# Altium footprint library newComponent0803.PcbLib: 11 footprints
Each footprint in its own frame and in the unit in brackets; x right, y up, seen from the top. Pads: shape width x height; smd on the part's side, far side on the other; paste and mask are expansions set on the pad; w line width, h text height; cw(c..) or ccw(c..) is an arc to the next point about the centre after c.
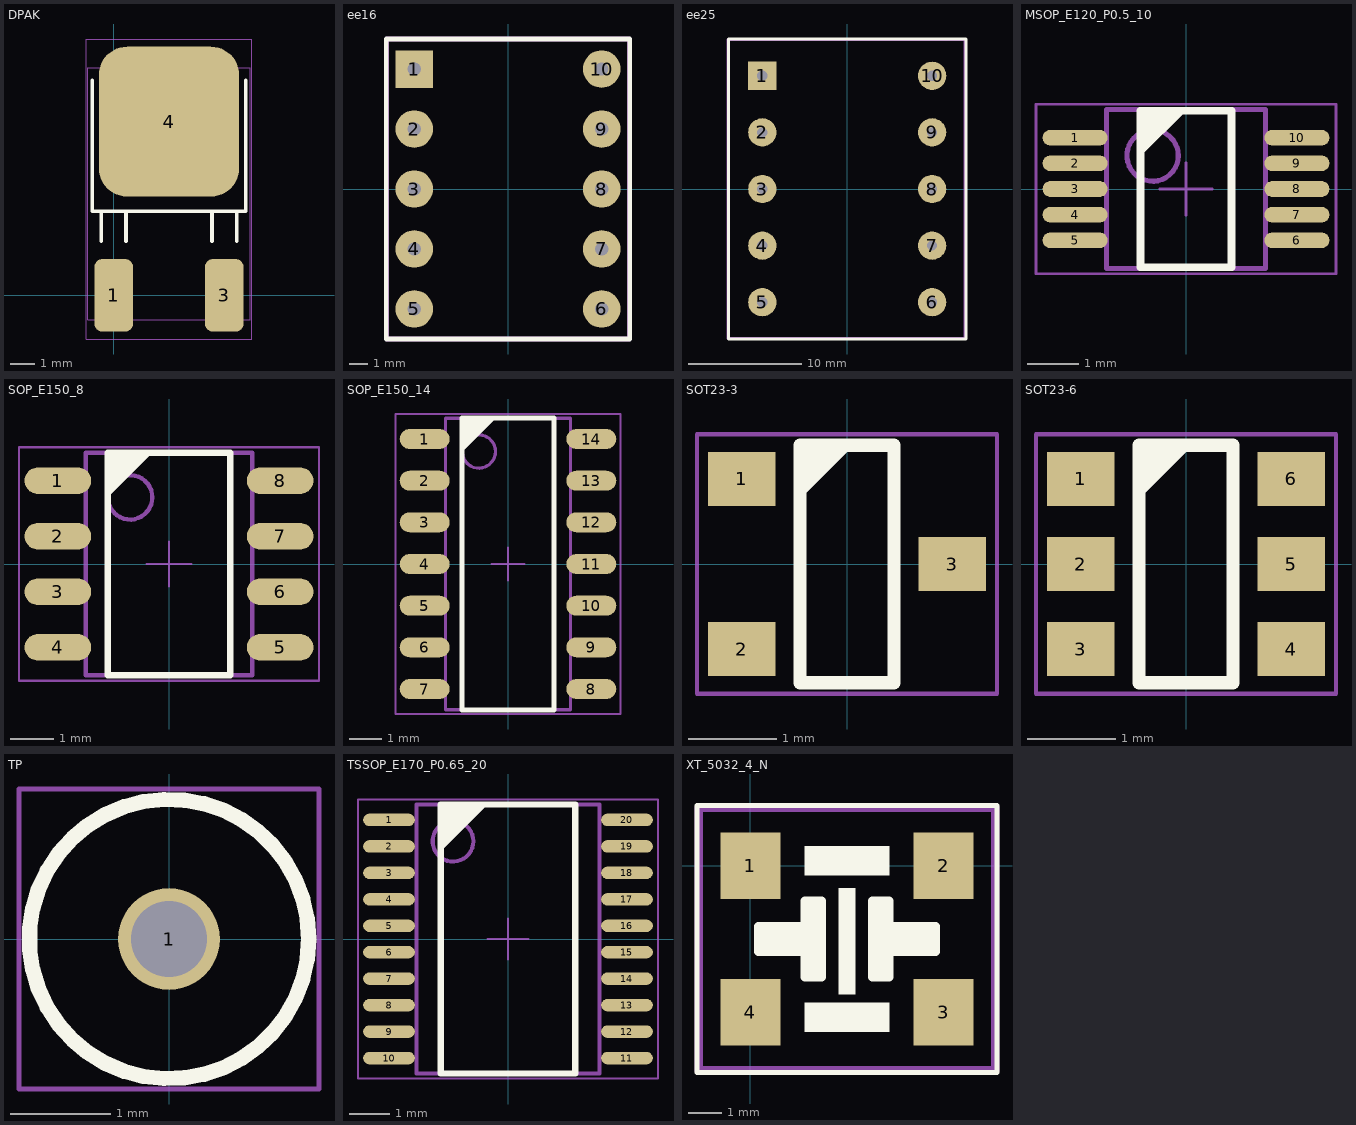
[diagram p0: the footprints below, top view; thin cyan lines are the x and y axes]

## DPAK [mm]
height 2.39
pads (3):
  rrect40% 1.6x3 smd: 1(0,0) 3(4.572,0)
  rrect40% 5.8x6.2 smd: 4(2.286,7.18)
Top Overlay:
  lines w0.152: -0.889,8.89 -0.889,3.48 5.461,3.48 5.461,8.89 ; -0.508,2.235 -0.508,3.48 ; 0.508,2.235 0.508,3.48 ; 4.064,2.235 4.064,3.48 ; 5.08,2.235 5.08,3.48
Mechanical 13:
  lines w0.051: -1.067,-1.016 5.639,-1.016 5.639,9.398 -1.067,9.398 -1.067,-1.016
T-Component:
  lines w0.051: -1.143,-1.803 -1.143,10.592 5.715,10.592 5.715,-1.803 -1.143,-1.803
3D body: height 2.3, standoff -0.11, extent -0.984,-0.807 5.556,9.131

## ee16 [mm] "transfor"
pads (10):
  rect 2x2 hole 0.7: 1(-5,6.4)
  round 2 hole 0.7: 2(-5,3.2) 3(-5,0) 4(-5,-3.2) 5(-5,-6.4) 6(5,-6.4) 7(5,-3.2) 8(5,0) 9(5,3.2) 10(5,6.4)
Top Overlay:
  lines w0.254: -6.5,-8 -6.5,8 6.5,8 6.5,-8 -6.5,-8
Mechanical 13:
  lines w0.254: -6.477,-8.001 -6.477,8.001 6.477,8.001 6.477,-8.001 -6.477,-8.001
3D body: height 17.95, standoff -3.1, extent -7.95,-8.85 7.95,8.85

## ee25 [mm] "transfor"
pads (10):
  rect 2.5x2.5 hole 0.9: 1(-7.5,10)
  round 2.5 hole 0.9: 2(-7.5,5) 3(-7.5,0) 4(-7.5,-5) 5(-7.5,-10) 6(7.5,-10) 7(7.5,-5) 8(7.5,0) 9(7.5,5) 10(7.5,10)
Top Overlay:
  lines w0.254: -10.5,-13.25 -10.5,13.25 10.5,13.25 10.5,-13.25 -10.5,-13.25
Mechanical 13:
  lines w0.254: -10.541,-13.208 -10.541,13.208 10.414,13.208 10.414,-13.208 -10.541,-13.208
3D body: height 21.34, standoff -2.36, extent -13.1,-13.5 12.9,13.5

## MSOP_E120_P0.5_10 [mil]
height 43.31
pads (10):
  oval 50x12 smd: 1(-85,39.37) 2(-85,19.69) 3(-85,0) 4(-85,-19.68) 5(-85,-39.37) 6(85,-39.37) 7(85,-19.68) 8(85,0) 9(85,19.69) 10(85,39.37)
Top Overlay:
  region: -35,60 0,60 -35,25
  lines w6: -35,-60 35,-60 35,60 -35,60 -35,-60
Mechanical 13:
  circle w3.94: c-25.59,25.59 r19.68
  lines w2: -20,0 20,0 ; 0,-20 0,20
  lines w3.94: -61.02,-61.02 -61.02,61.02 61.02,61.02 61.02,-61.02 -61.02,-61.02
T-Component:
  lines w2: -115,-65 -115,65 115,65 115,-65 -115,-65
3D body: height 45.28, standoff 0, extent -96.45,-59.05 96.47,59.06

## SOP_E150_8 [mil]
height 68.9
pads (8):
  oval 60x24 smd: 1(-100,75) 2(-100,25) 3(-100,-25) 4(-100,-75) 5(100,-75) 6(100,-25) 7(100,25) 8(100,75)
Top Overlay:
  region: -55,100 -15,100 -55,60
  lines w6: -55,-100 -55,100 55,100 55,-100 -55,-100
Mechanical 13:
  circle w4: c-35,60 r20
  lines w2: -20,0 20,0 ; 0,-20 0,20
  lines w4: -75,-100 75,-100 75,100 -75,100 -75,-100
T-Component:
  lines w2: -135,-105 -135,105 135,105 135,-105 -135,-105
3D body: height 68.9, standoff 0, extent -118.1,-96.46 118.11,96.46

## SOP_E150_14 [mil]
height 68.9
pads (14):
  oval 60x24 smd: 1(-100,150) 2(-100,100) 3(-100,50) 4(-100,0) 5(-100,-50) 6(-100,-100) 7(-100,-150) 8(100,-150) 9(100,-100) 10(100,-50) 11(100,0) 12(100,50) 13(100,100) 14(100,150)
Top Overlay:
  region: -55,175 -15,175 -55,135
  lines w6: -55,-175 55,-175 55,175 -55,175 -55,-175
Mechanical 13:
  circle w4: c-35,135 r20
  lines w2: -20,0 20,0 ; 0,-20 0,20
  lines w4: -75,-175 -75,175 75,175 75,-175 -75,-175
T-Component:
  lines w2: -135,-180 135,-180 135,180 -135,180 -135,-180
3D body: height 68.9, standoff 0, extent -118.1,-172.24 118.11,172.25

## SOT23-3 [mil]
height 39.5
pads (3):
  rect 30x24 smd: 1(-47,38) 2(-47,-38) 3(47,0)
Top Overlay:
  region: -21,53 3,53 -21,29
  lines w6: -21,-53 21,-53 21,53 -21,53 -21,-53
T-Component:
  lines w2: -67,-58 67,-58 67,58 -67,58 -67,-58
3D body: height 51.18, standoff 0, extent -55.11,-57.09 55.12,57.09

## SOT23-6 [mil]
height 62.99
pads (6):
  rect 30x24 smd: 1(-47,38) 2(-47,0) 3(-47,-38) 4(47,-38) 5(47,0) 6(47,38)
Top Overlay:
  region: -21,53 3,53 -21,29
  lines w6: -21,-53 21,-53 21,53 -21,53 -21,-53
T-Component:
  lines w2: -67,-58 67,-58 67,58 -67,58 -67,-58
3D body: height 57.09, standoff 0, extent -55.11,-57.09 55.12,57.09

## TP [mil]
pads (1):
  round 40 hole 30: 1(0,0)
Top Overlay:
  circle w6: c0,0 r55
T-Component:
  lines w2: -59.06,-59.06 59.06,-59.06 59.06,59.06 -59.06,59.06 -59.06,-59.06

## TSSOP_E170_P0.65_20 [mil]
height 47.24
pads (20):
  oval 50x12 smd: 1(-115,115.16) 2(-115,89.57) 3(-115,63.98) 4(-115,38.39) 5(-115,12.8) 6(-115,-12.8) 7(-115,-38.39) 8(-115,-63.98) 9(-115,-89.57) 10(-115,-115.16) 11(115,-115.16) 12(115,-89.57) 13(115,-63.98) 14(115,-38.39) 15(115,-12.8) 16(115,12.8) 17(115,38.39) 18(115,63.98) 19(115,89.57) 20(115,115.16)
Top Overlay:
  region: -65,130 -20,130 -65,85
  lines w6: -65,-130 -65,130 65,130 65,-130 -65,-130
Mechanical 13:
  circle w3.94: c-53.15,94.49 r19.68
  lines w2: -20,0 20,0 ; 0,-20 0,20
  lines w3.94: -88.58,-129.92 -88.58,129.92 88.58,129.92 88.58,-129.92 -88.58,-129.92
T-Component:
  lines w2: -145,-135 145,-135 145,135 -145,135 -145,-135
3D body: height 41.69, standoff -1.62, extent -125.98,-129.91 125.99,129.93

## XT_5032_4_N [mm]
pads (4):
  rect 1.8x2 smd: 1(0,0) 2(5.8,0) 3(5.8,-4.4) 4(0,-4.4)
Top Overlay:
  rectangle: 1.63,-4.994 4.17,-4.105
  rectangle: 1.63,-0.295 4.17,0.594
  region: 4.17,-3.343 4.17,-2.581 5.567,-2.581 5.567,-1.819 4.17,-1.819 4.17,-1.057 3.662,-1.057 3.662,-3.343
  region: 1.63,-1.057 1.63,-1.819 0.233,-1.819 0.233,-2.581 1.63,-2.581 1.63,-3.343 2.138,-3.343 2.138,-1.057
  region: 2.659,-0.676 3.141,-0.676 3.141,-3.851 2.659,-3.851
  lines w0.152: -1.6,-6.2 7.4,-6.2 7.4,1.8 -1.6,1.8 -1.6,-6.2
  lines w0.254: 0.233,-2.581 1.63,-2.581 1.63,-3.343 2.138,-3.343 2.138,-1.057 1.63,-1.057 1.63,-1.819 0.233,-1.819 0.233,-2.581 ; 3.662,-3.343 4.17,-3.343 4.17,-2.581 5.567,-2.581 5.567,-1.819 4.17,-1.819 4.17,-1.057 3.662,-1.057 3.662,-3.343
T-Component:
  lines w0.254: -1.545,-6.137 7.345,-6.137 7.345,1.737 -1.545,1.737 -1.545,-6.137
3D body: height 0.9, standoff -0.05, extent 0.5,-3.7 5.5,-0.5